# Altium footprint library uTDFN-6.PcbLib: 1 footprints
Each footprint in its own frame and in the unit in brackets; x right, y up, seen from the top. Pads: shape width x height; smd on the part's side, far side on the other; paste and mask are expansions set on the pad; w line width, h text height; cw(c..) or ccw(c..) is an arc to the next point about the centre after c.
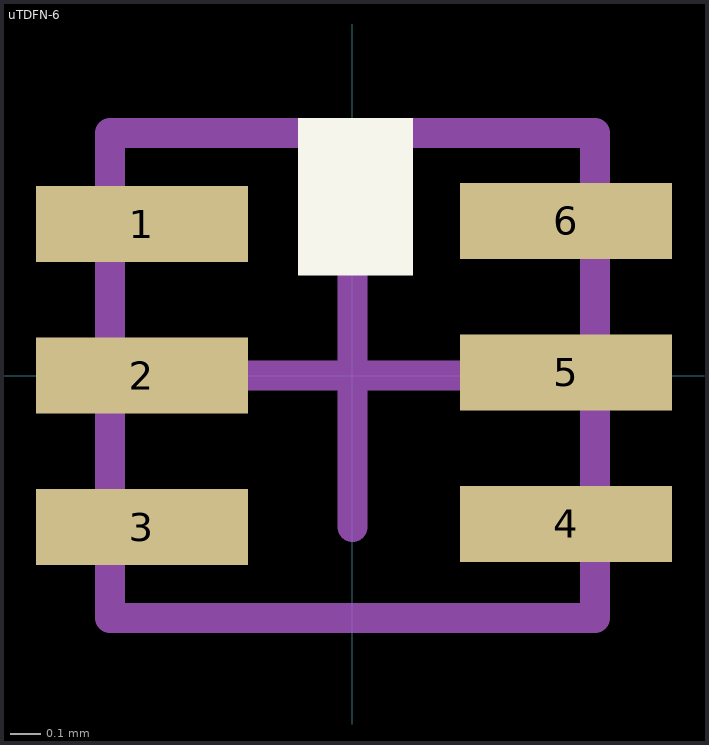
[diagram p0: the footprint, top view; thin cyan lines are the x and y axes]

## uTDFN-6 [mm] "6-Leads, Body 1.60x1.60mm, Pitch 0.50mm, IPC Low Density"
height 0.55
pads (6):
  rect 0.7x0.25 smd: 1(-0.695,0.5) 2(-0.695,0) 3(-0.695,-0.5) 4(0.705,-0.49) 5(0.705,0.01) 6(0.705,0.51)
Top Overlay:
  rectangle: -0.18,0.33 0.2,0.85
Mechanical 13:
  lines w0.1: -0.8,-0.8 -0.8,0.8 0.8,0.8 0.8,-0.8 -0.8,-0.8
Mechanical 15:
  lines w0.1: -0.5,0 0.5,0 ; 0,-0.5 0,0.5
3D body: height 0.25, standoff 0, extent -1.03,-0.76 -1.03,-0.76
3D body: height 0.55, standoff 0, extent -0.795,-0.8 0.805,0.8